# Altium schematic symbol library 1814951.SchLib: 1 symbol
Pins are listed as number, name and electrical type; pins without a type are passive.

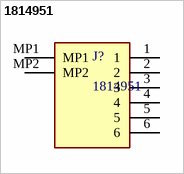
[diagram p0: symbol 1814951]

## 1814951
designator J?
Pluggable Terminal Blocks PTSM 0,5/ 6-HH0-2,5- SMD WH R44
footprint 1814951
pins: 1, 2, 3, 4, 5, 6, MP1, MP2